# Altium footprint library R SMD.PcbLib: 31 footprints (part 1 of 2)
Each footprint in its own frame and in the unit in brackets; x right, y up, seen from the top. Pads: shape width x height; smd on the part's side, far side on the other; paste and mask are expansions set on the pad; w line width, h text height; cw(c..) or ccw(c..) is an arc to the next point about the centre after c.
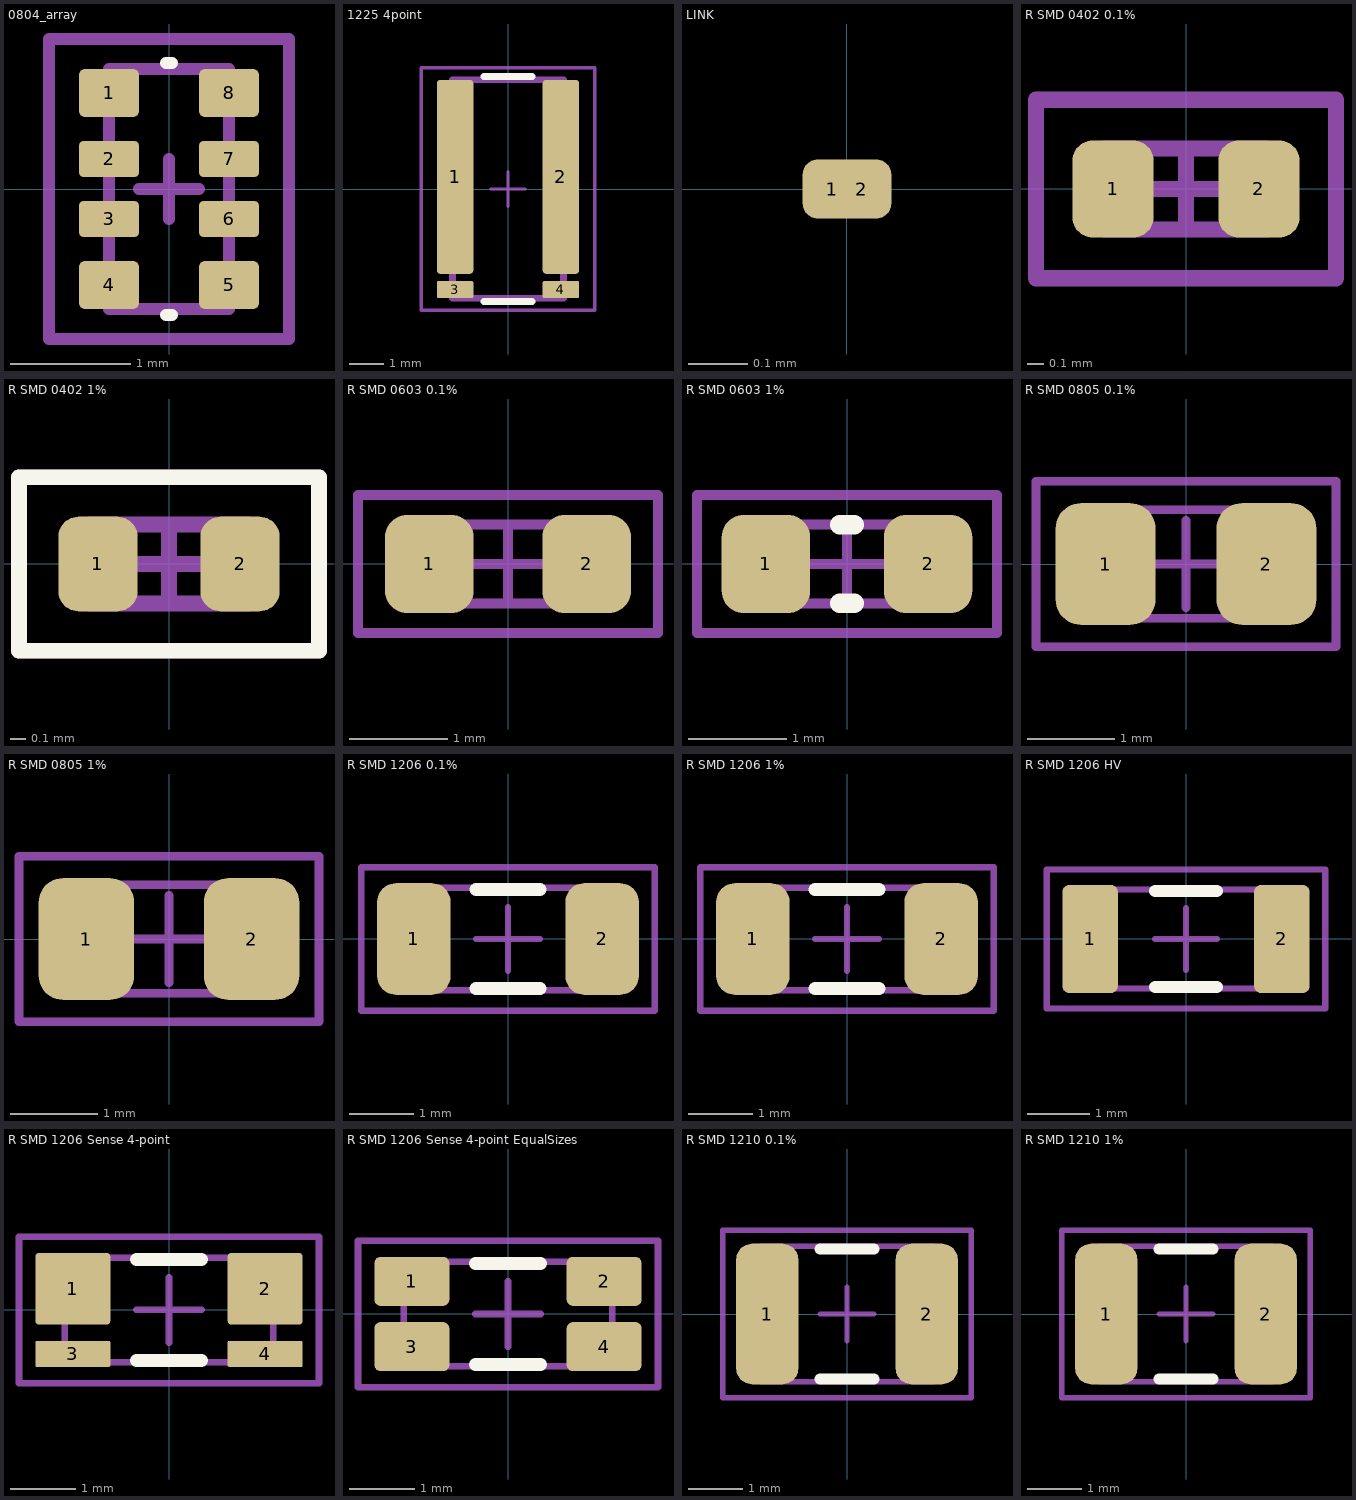
[diagram p0: the footprints below, top view; thin cyan lines are the x and y axes]

## 0804_array [mm]
pads (8):
  rrect25% 0.5x0.4 smd: 1(-0.5,0.8) 4(-0.5,-0.8) 5(0.5,-0.8) 8(0.5,0.8)
  rrect25% 0.5x0.3 smd: 2(-0.5,0.25) 3(-0.5,-0.25) 6(0.5,-0.25) 7(0.5,0.25)
Top Overlay:
  lines w0.1: -0.025,-1.05 0.025,-1.05 ; -0.025,1.05 0.025,1.05
Mechanical 13:
  lines w0.1: -0.5,-1 -0.5,1 0.5,1 0.5,-1 -0.5,-1
Mechanical 15:
  lines w0.1: -0.25,0 0.25,0 ; 0,-0.25 0,0.25 ; -1,-1.25 -1,1.25 1,1.25 1,-1.25 -1,-1.25
3D body: height 0.45, standoff 0, extent -0.5,-1 0.5,1

## 1225 4point [mm]
height 0.2
pads (4):
  rrect20% 1.05x5.6 smd: 1(-1.525,0.35) 2(1.525,0.35)
  rrect20% 1.05x0.5 smd: 3(-1.525,-2.9) 4(1.525,-2.9)
Top Overlay:
  lines w0.2: -0.7,-3.25 0.7,-3.25 ; -0.7,3.25 0.7,3.25
Mechanical 13:
  lines w0.2: -1.6,-3.15 -1.6,3.15 1.6,3.15 1.6,-3.15 -1.6,-3.15
Mechanical 15:
  lines w0.1: -0.5,0 0.5,0 ; 0,-0.5 0,0.5 ; -2.5,-3.5 2.5,-3.5 2.5,3.5 -2.5,3.5 -2.5,-3.5
3D body: height 0.2, standoff 0, extent -1.6,-3.15 -1.1,3.15
3D body: height 0.2, standoff 0, extent 1.1,-3.15 1.6,3.15
3D body: height 0.2, standoff 0, extent -1.1,-3.15 1.1,3.15

## LINK [mm] "Short circuit for feedback line control"
pads (2):
  rrect50% 0.1x0.1 smd paste-0.1: 1(-0.025,0) 2(0.025,0)

## R SMD 0402 0.1% [mm] "R SMD 0402 0.1%"
height 0.35
pads (2):
  rrect50% 0.5x0.6 smd: 1(-0.45,0) 2(0.45,0)
Mechanical 13:
  lines w0.1: -0.5,-0.25 0.5,-0.25 0.5,0.25 -0.5,0.25 -0.5,-0.25
Mechanical 15:
  lines w0.1: -0.25,0 0.25,0 ; 0,-0.25 0,0.25 ; -0.925,-0.55 0.925,-0.55 0.925,0.55 -0.925,0.55 -0.925,-0.55
3D body: height 0.35, standoff 0, extent -0.5,-0.25 0.5,0.25

## R SMD 0402 1% [mm] "R SMD 0402 1%"
height 0.35
pads (2):
  rrect50% 0.5x0.6 smd: 1(-0.45,0) 2(0.45,0)
Top Overlay:
  lines w0.1: -0.95,-0.55 -0.95,0.55 0.95,0.55 0.95,-0.55 -0.95,-0.55
Mechanical 13:
  lines w0.1: -0.5,-0.25 -0.5,0.25 0.5,0.25 0.5,-0.25 -0.5,-0.25
Mechanical 15:
  lines w0.1: -0.25,0 0.25,0 ; 0,-0.25 0,0.25 ; -0.95,-0.55 -0.95,0.55 0.95,0.55 0.95,-0.55 -0.95,-0.55
3D body: height 0.35, standoff 0, extent -0.5,-0.25 0.5,0.25

## R SMD 0603 0.1% [mm] "R SMD 0603 0.1%"
height 0.45
pads (2):
  rrect50% 0.9x1 smd: 1(-0.8,0) 2(0.8,0)
Mechanical 13:
  lines w0.1: -0.8,-0.4 0.8,-0.4 0.8,0.4 -0.8,0.4 -0.8,-0.4
Mechanical 15:
  lines w0.1: -0.4,0 0.4,0 ; 0,-0.4 0,0.4 ; -1.525,-0.7 1.525,-0.7 1.525,0.7 -1.525,0.7 -1.525,-0.7
3D body: height 0.45, standoff 0, extent -0.775,-0.425 0.775,0.425

## R SMD 0603 1% [mm] "R SMD 0603 1%"
height 0.45
pads (2):
  rrect50% 0.9x1 smd: 1(-0.825,0) 2(0.825,0)
Top Overlay:
  lines w0.2: -0.075,-0.4 0.075,-0.4 ; -0.075,0.4 0.075,0.4
Mechanical 13:
  lines w0.1: -0.8,-0.4 -0.8,0.4 0.8,0.4 0.8,-0.4 -0.8,-0.4
Mechanical 15:
  lines w0.1: -0.4,0 0.4,0 ; 0,-0.4 0,0.4 ; -1.525,-0.7 -1.525,0.7 1.525,0.7 1.525,-0.7 -1.525,-0.7
3D body: height 0.45, standoff 0, extent -0.775,-0.425 0.775,0.425

## R SMD 0805 0.1% [mm] "R SMD 0805 0.1%"
height 0.6
pads (2):
  rrect50% 1.15x1.4 smd: 1(-0.925,0) 2(0.925,0)
Mechanical 13:
  lines w0.1: -1,-0.625 -1,0.625 1,0.625 1,-0.625 -1,-0.625
Mechanical 15:
  lines w0.1: -0.5,0 0.5,0 ; 0,-0.5 0,0.5 ; -1.725,-0.95 -1.725,0.95 1.725,0.95 1.725,-0.95 -1.725,-0.95
3D body: height 0.45, standoff 0, extent -1,-0.625 1,0.625

## R SMD 0805 1% [mm] "R SMD 0805 1%"
height 0.6
pads (2):
  rrect50% 1.1x1.4 smd: 1(-0.95,0) 2(0.95,0)
Mechanical 13:
  lines w0.1: -1,-0.625 -1,0.625 1,0.625 1,-0.625 -1,-0.625
Mechanical 15:
  lines w0.1: -0.5,0 0.5,0 ; 0,-0.5 0,0.5 ; -1.725,-0.95 -1.725,0.95 1.725,0.95 1.725,-0.95 -1.725,-0.95
3D body: height 0.45, standoff 0, extent -1,-0.625 1,0.625

## R SMD 1206 0.1% [mm] "R SMD 1206 0.1%"
height 0.6
pads (2):
  rrect50% 1.15x1.75 smd: 1(-1.475,0) 2(1.475,0)
Top Overlay:
  lines w0.2: -0.5,-0.775 0.5,-0.775 ; -0.5,0.775 0.5,0.775
Mechanical 13:
  lines w0.1: -1.6,-0.8 1.6,-0.8 1.6,0.8 -1.6,0.8 -1.6,-0.8
Mechanical 15:
  lines w0.1: -0.5,0 0.5,0 ; 0,-0.5 0,0.5 ; -2.3,-1.125 2.3,-1.125 2.3,1.125 -2.3,1.125 -2.3,-1.125
3D body: height 0.55, standoff 0, extent -1.6,-0.8 1.6,0.8

## R SMD 1206 1% [mm] "R SMD 1206 1%"
height 0.6
pads (2):
  rrect50% 1.15x1.75 smd: 1(-1.475,0) 2(1.475,0)
Top Overlay:
  lines w0.2: -0.5,-0.775 0.5,-0.775 ; -0.5,0.775 0.5,0.775
Mechanical 13:
  lines w0.1: -1.6,-0.8 1.6,-0.8 1.6,0.8 -1.6,0.8 -1.6,-0.8
Mechanical 15:
  lines w0.1: -0.5,0 0.5,0 ; 0,-0.5 0,0.5 ; -2.3,-1.125 2.3,-1.125 2.3,1.125 -2.3,1.125 -2.3,-1.125
3D body: height 0.55, standoff 0, extent -1.6,-0.8 1.6,0.8

## R SMD 1206 HV [mm] "R SMD 1206 HV"
height 0.6
pads (2):
  rrect25% 0.9x1.75 smd: 1(-1.55,0) 2(1.55,0)
Top Overlay:
  lines w0.2: -0.5,-0.775 0.5,-0.775 ; -0.5,0.775 0.5,0.775
Mechanical 13:
  lines w0.1: -1.6,-0.8 -1.6,0.8 1.6,0.8 1.6,-0.8 -1.6,-0.8
Mechanical 15:
  lines w0.1: -0.5,0 0.5,0 ; 0,-0.5 0,0.5 ; -2.25,-1.125 -2.25,1.125 2.25,1.125 2.25,-1.125 -2.25,-1.125
3D body: height 0.55, standoff 0, extent -1.6,-0.8 1.6,0.8

## R SMD 1206 Sense 4-point [mm] "R SMD 1206 1% with Kelvin connection footprint"
height 0.6
pads (4):
  rrect10% 1.15x1.1 smd: 1(-1.475,0.325) 2(1.475,0.325)
  rrect10% 1.15x0.4 smd: 3(-1.475,-0.675) 4(1.475,-0.675)
Top Overlay:
  lines w0.2: -0.5,-0.775 0.5,-0.775 ; -0.5,0.775 0.5,0.775
Mechanical 13:
  lines w0.1: -1.6,-0.8 1.6,-0.8 1.6,0.8 -1.6,0.8 -1.6,-0.8
Mechanical 15:
  lines w0.1: -0.5,0 0.5,0 ; 0,-0.5 0,0.5 ; -2.3,-1.125 2.3,-1.125 2.3,1.125 -2.3,1.125 -2.3,-1.125
3D body: height 0.55, standoff 0, extent -1.6,-0.8 1.6,0.8

## R SMD 1206 Sense 4-point EqualSizes [mm] "R SMD 1206 1% with Kelvin connection footprint"
height 0.6
pads (4):
  rrect25% 1.15x0.75 smd: 1(-1.475,0.5) 2(1.475,0.5) 3(-1.475,-0.5) 4(1.475,-0.5)
Top Overlay:
  lines w0.2: -0.5,-0.775 0.5,-0.775 ; -0.5,0.775 0.5,0.775
Mechanical 13:
  lines w0.1: -1.6,-0.8 -1.6,0.8 1.6,0.8 1.6,-0.8 -1.6,-0.8
Mechanical 15:
  lines w0.1: -0.5,0 0.5,0 ; 0,-0.5 0,0.5 ; -2.3,-1.125 -2.3,1.125 2.3,1.125 2.3,-1.125 -2.3,-1.125
3D body: height 0.55, standoff 0, extent -1.6,-0.8 1.6,0.8

## R SMD 1210 0.1% [mm] "R SMD 1210 0.1%"
height 0.6
pads (2):
  rrect50% 1.15x2.6 smd: 1(-1.475,0) 2(1.475,0)
Top Overlay:
  lines w0.2: -0.5,-1.2 0.5,-1.2 ; -0.5,1.2 0.5,1.2
Mechanical 13:
  lines w0.1: -1.6,-1.25 -1.6,1.25 1.6,1.25 1.6,-1.25 -1.6,-1.25
Mechanical 15:
  lines w0.1: -0.5,0 0.5,0 ; 0,-0.5 0,0.5 ; -2.3,-1.55 -2.3,1.55 2.3,1.55 2.3,-1.55 -2.3,-1.55
3D body: height 0.55, standoff 0, extent -1.6,-1.25 1.6,1.25

## R SMD 1210 1% [mm] "R SMD 1210 1%"
height 0.6
pads (2):
  rrect50% 1.15x2.6 smd: 1(-1.475,0) 2(1.475,0)
Top Overlay:
  lines w0.2: -0.5,-1.2 0.5,-1.2 ; -0.5,1.2 0.5,1.2
Mechanical 13:
  lines w0.1: -1.6,-1.25 -1.6,1.25 1.6,1.25 1.6,-1.25 -1.6,-1.25
Mechanical 15:
  lines w0.1: -0.5,0 0.5,0 ; 0,-0.5 0,0.5 ; -2.3,-1.55 -2.3,1.55 2.3,1.55 2.3,-1.55 -2.3,-1.55
3D body: height 0.55, standoff 0, extent -1.6,-1.25 1.6,1.25